# EAGLE library part CP2104 (library vinorodrigues-custom-eagle)
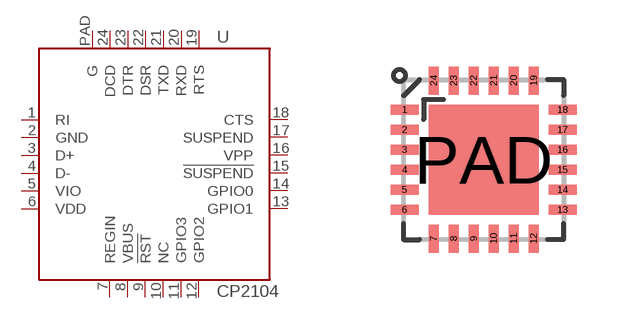
[diagram p16: symbol with the pads of QFN-24; footprint QFN-24]

Designator prefix U

## CP2104  [QFN-24]
1  RI
2  GND
3  D+
4  D-
5  VIO
6  VDD
7  REGIN
8  VBUS
9  !RST
10  NC
11  GPIO3
12  GPIO2
13  GPIO1
14  GPIO0
15  !SUSPEND
16  VPP
17  SUSPEND
18  CTS
19  RTS
20  RXD
21  TXD
22  DSR
23  DTR
24  DCD
PAD  G

## Footprint QFN-24 (pad centres in mm)
24-pin QFN with Exposed Thermal pad Parts that use this package: A6282 Last modified: 8/20/10 ***UNPROVEN***
smd 0.7 x 0.25: 1 -1.975,1.25; 2 -1.975,0.75; 3 -1.975,0.25; 4 -1.975,-0.25; 5 -1.975,-0.75; 6 -1.975,-1.25; 13 1.975,-1.25; 14 1.975,-0.75; 15 1.975,-0.25; 16 1.975,0.25; 17 1.975,0.75; 18 1.975,1.25
smd 0.25 x 0.7: 7 -1.25,-1.975; 8 -0.75,-1.975; 9 -0.25,-1.975; 10 0.25,-1.975; 11 0.75,-1.975; 12 1.25,-1.975; 19 1.25,1.975; 20 0.75,1.975; 21 0.25,1.975; 22 -0.25,1.975; 23 -0.75,1.975; 24 -1.25,1.975
smd 2.75 x 2.75: PAD 0,0